# EAGLE library part OPA2134UAE4 (library OPA2134UAE4)
TEXAS INSTRUMENTS - OPA2134UAE4. - Audio Power Amplifier, 2 Channel, +/- 2.5V to +/- 18V, SOIC, 8 Pins Source: Datasheet <https://www.ti.com/lit/gpn/OPA2134>
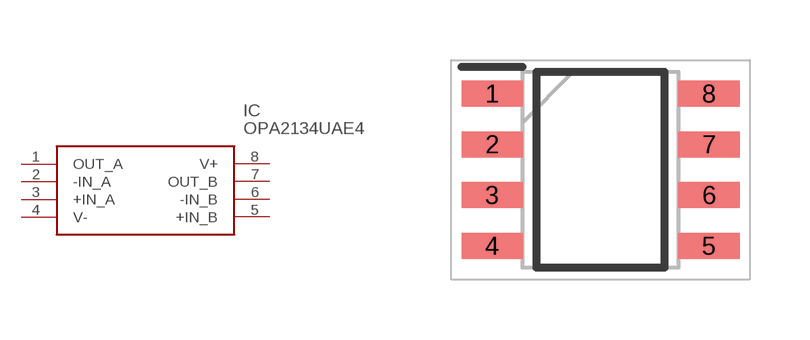
[diagram p0: symbol with the pads of SOIC127P600X175-8N; footprint SOIC127P600X175-8N]

Designator prefix IC

## OPA2134UAE4 (Description: TEXAS INSTRUMENTS - OPA2134UAE4. - Audio Power Amplifier, 2 Channel, +/- 2.5V to +/- 18V, SOIC, 8 Pins; Height: 1.75mm; Manufacturer_Name: Texas Instruments; Manufacturer_Part_Number: OPA2134UAE4; Mouser_Part_Number: 595-OPA2134UAE4; Mouser_Price-Stock: https://www.mouser.co.uk/ProductDetail/Texas-Instruments/OPA2134UAE4?qs=7nS3%252BbEUL6uzphh9X3AzMA%3D%3D)  [SOIC127P600X175-8N]
1  OUT_A
2  -IN_A
3  +IN_A
4  V-
5  +IN_B
6  -IN_B
7  OUT_B
8  V+

## Footprint SOIC127P600X175-8N (pad centres in mm)
D0008A
smd 1.528 x 0.65: 1 -2.711,1.905; 2 -2.711,0.635; 3 -2.711,-0.635; 4 -2.711,-1.905; 5 2.711,-1.905; 6 2.711,-0.635; 7 2.711,0.635; 8 2.711,1.905